# EAGLE library part TPS2556 (library RitLaunchInitiative)
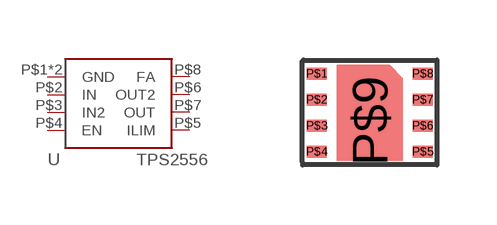
[diagram p9: symbol with the pads of TPS2556; footprint TPS2556]

Designator prefix -

## TPS2556  [TPS2556]
P$1  GND
P$2  IN
P$3  IN2
P$4  EN
P$5  ILIM
P$6  OUT2
P$7  OUT
P$8  FA
P$9  GND

## Footprint TPS2556 (pad centres in mm)
smd 0.5 x 0.3: P$1 -1.325,0.975; P$2 -1.325,0.325; P$3 -1.325,-0.325; P$4 -1.325,-0.975; P$5 1.325,-0.975; P$6 1.325,-0.325; P$7 1.325,0.325; P$8 1.325,0.975
smd 1.65 x 2: P$9 0,-0.2